# Altium footprint library PcbLib1.PcbLib: 9 footprints
Each footprint in its own frame and in the unit in brackets; x right, y up, seen from the top. Pads: shape width x height; smd on the part's side, far side on the other; paste and mask are expansions set on the pad; w line width, h text height; cw(c..) or ccw(c..) is an arc to the next point about the centre after c.
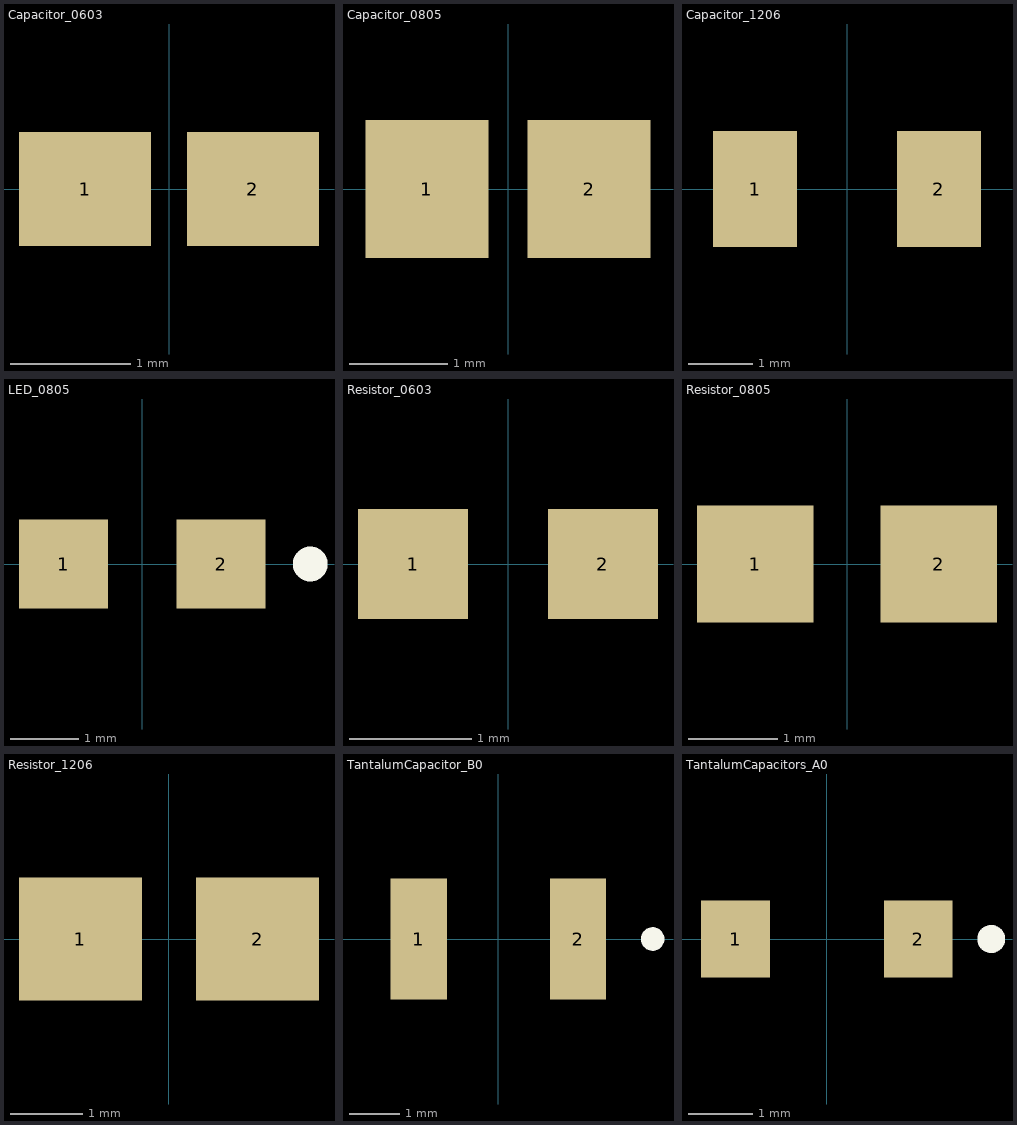
[diagram p0: the footprints below, top view; thin cyan lines are the x and y axes]

## Capacitor_0603 [mm] "Chip Capacitor, 2-Leads, Body 1.60x0.80mm, IPC Medium Density"
height 0.85
pads (2):
  rect 1.1x0.95 smd: 1(-0.7,0) 2(0.7,0)

## Capacitor_0805 [mm] "Chip Capacitor, 2-Leads, Body 2.00x1.25mm, IPC Medium Density"
height 0.7
pads (2):
  rect 1.25x1.4 smd: 1(-0.825,0) 2(0.825,0)

## Capacitor_1206 [mm] "Chip Capacitor, 2-Leads, Body 3.20x1.60mm, IPC Medium Density"
height 0.9
pads (2):
  rect 1.3x1.8 smd: 1(-1.425,0) 2(1.425,0)

## LED_0805 [mm] "Green/Blue/Red"
pads (2):
  rect 1.3x1.3 smd: 1(-1.15,0) 2(1.15,0)
Top Overlay:
  circle w0.254: c2.45,0 r0.127

## Resistor_0603 [mm] "Chip Resistor, 2-Leads, Body 1.60x0.80mm, IPC Medium Density"
height 0.5
pads (2):
  rect 0.9x0.9 smd: 1(-0.775,0) 2(0.775,0)

## Resistor_0805 [mm]
pads (2):
  rect 1.3x1.3 smd: 1(-1.022,0) 2(1.022,0)

## Resistor_1206 [mm]
pads (2):
  rect 1.7x1.7 smd: 1(-1.225,0) 2(1.225,0)

## TantalumCapacitor_B0 [mm] "B0 case, Molded Tantalum Capacitor 16 V"
pads (2):
  rect 1.11x2.4 smd: 1(-1.575,0) 2(1.575,0)
Top Overlay:
  circle w0.254: c3.05,0 r0.106

## TantalumCapacitors_A0 [mm] "A0 case, Molded Tantalum Capacitors 16 V"
pads (2):
  rect 1.07x1.2 smd: 1(-1.42,0) 2(1.42,0)
Top Overlay:
  circle w0.254: c2.555,0 r0.09